# EAGLE library part ATTINY85_SOIC8 (library lolomolo)
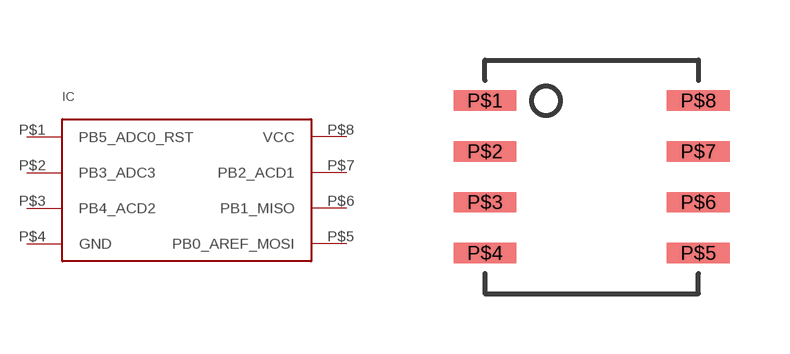
[diagram p10: symbol with the pads of SOIC-8; footprint SOIC-8]

Designator prefix IC

## ATTINY85_SOIC8  [SOIC-8]
P$1  PB5_ADC0_RST
P$2  PB3_ADC3
P$3  PB4_ACD2
P$4  GND
P$5  PB0_AREF_MOSI
P$6  PB1_MISO
P$7  PB2_ACD1
P$8  VCC

## Footprint SOIC-8 (pad centres in mm)
smd 1.575 x 0.508: P$1 0,3.81; P$2 0,2.54; P$3 0,1.27; P$4 0,0; P$5 5.334,0; P$6 5.334,1.27; P$7 5.334,2.54; P$8 5.334,3.81